# EAGLE library part 93LC46BT-I/SN (library Microchip_By_element14_Batch_1)
1K Microwire Compatible Serial EEPROM
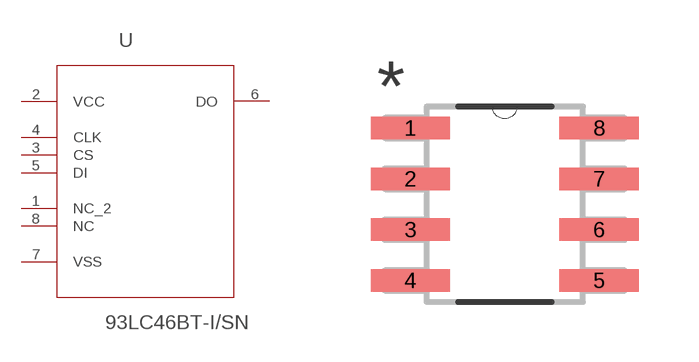
[diagram p231: symbol with the pads of SOIC127P600X175-8N; footprint SOIC127P600X175-8N]

Designator prefix -

## 93LC46BT-I/SN (DESCRIPTION: 1K Microwire Compatible Serial EEPROM; MPN: 93LC46BT-I/SN; OC_FARNELL: -; OC_NEWARK: 75M3690; PACKAGE: SOIC-8; SUPPLIER: Microchip)  [SOIC127P600X175-8N]
1  NC_2  nc
2  VCC  pwr
3  CS  in
4  CLK  in
5  DI  in
6  DO  out
7  VSS  pwr
8  NC  nc

## Footprint SOIC127P600X175-8N (pad centres in mm)
smd 1.981 x 0.559: 1 -2.362,1.905; 2 -2.362,0.635; 3 -2.362,-0.635; 4 -2.362,-1.905; 5 2.362,-1.905; 6 2.362,-0.635; 7 2.362,0.635; 8 2.362,1.905